# EAGLE library part CON_06SCREW (library VinoRodrigues_Custom_Eagle)
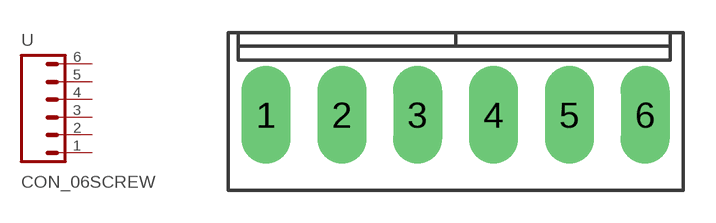
[diagram p6: symbol with the pads of WURTH_2431_3.5MM_6X_SCREW; footprint WURTH_2431_3.5MM_6X_SCREW]

Designator prefix -

## CON_06SCREW  [WURTH_2431_3.5MM_6X_SCREW]
1  1  pas
2  2  pas
3  3  pas
4  4  pas
5  5  pas
6  6  pas

## Footprint WURTH_2431_3.5MM_6X_SCREW (pad centres in mm)
drill 1.5 long: 1 0,0; 2 3.5,0; 3 7,0; 4 10.5,0; 5 14,0; 6 17.5,0